# Altium schematic symbol library LTM4627EY#PBF.SchLib: 1 symbol
Pins are listed as number, name and electrical type; pins without a type are passive.

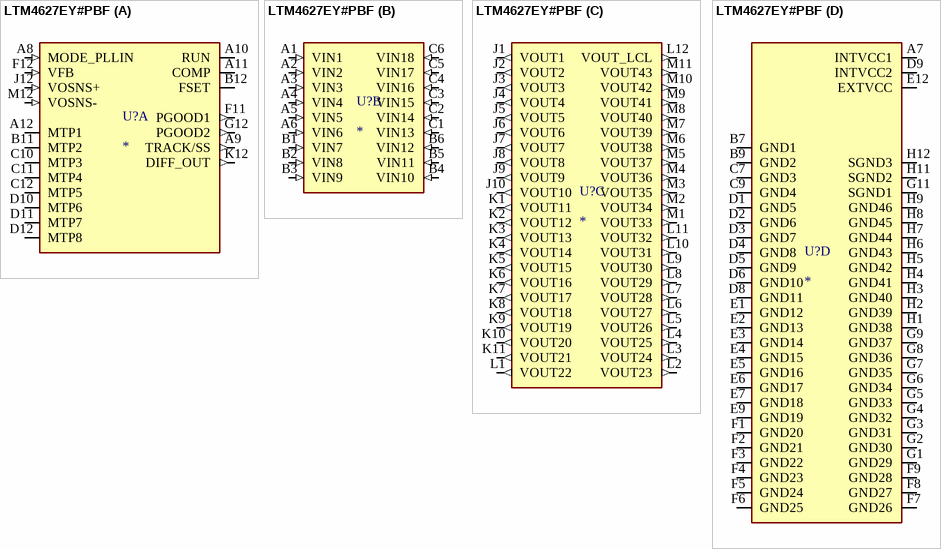
[diagram p0: symbol LTM4627EY#PBF]

## LTM4627EY#PBF
designator U?
Module DC-DC 1-OUT 0.6V to 5V 15A Automotive 133-Pin BGA Tray; MF: Analog Devices; MP: LTM4627EY#PBF; SnapEDA_Link: https://www.snapeda.com/parts/LTM4627EY%23PBF/Analog+Devices/view-part/?ref=snap; Availability: In Stock; Purchase-URL: https://pricing.snapeda.com/search/part/LTM4627EY#PBF/?ref=eda; Check_prices: https://www.snapeda.com/parts/LTM4627EY%23PBF/Analog+Devices/view-part/?ref=eda; Value: *; Package: BGA -133 Analog Devices; Price: None
footprint BGA133C127P12X12_1500X1500X512N
part A pins: A8 MODE_PLLIN (in), A9 TRACK/SS (out), A10 RUN (io), A11 COMP (io), A12 MTP1, B11 MTP2, B12 FSET (io), C10 MTP3, C11 MTP4, C12 MTP5, D10 MTP6, D11 MTP7, D12 MTP8, F11 PGOOD1 (out), F12 VFB (in), G12 PGOOD2 (out), J12 VOSNS+ (in), K12 DIFF_OUT (out), M12 VOSNS- (in)
part B pins: A1 VIN1 (in), A2 VIN2 (in), A3 VIN3 (in), A4 VIN4 (in), A5 VIN5 (in), A6 VIN6 (in), B1 VIN7 (in), B2 VIN8 (in), B3 VIN9 (in), B4 VIN10 (in), B5 VIN11 (in), B6 VIN12 (in), C1 VIN13 (in), C2 VIN14 (in), C3 VIN15 (in), C4 VIN16 (in), C5 VIN17 (in), C6 VIN18 (in)
part C pins: J1 VOUT1 (out), J2 VOUT2 (out), J3 VOUT3 (out), J4 VOUT4 (out), J5 VOUT5 (out), J6 VOUT6 (out), J7 VOUT7 (out), J8 VOUT8 (out), J9 VOUT9 (out), J10 VOUT10 (out), K1 VOUT11 (out), K2 VOUT12 (out), K3 VOUT13 (out), K4 VOUT14 (out), K5 VOUT15 (out), K6 VOUT16 (out), K7 VOUT17 (out), K8 VOUT18 (out), K9 VOUT19 (out), K10 VOUT20 (out), K11 VOUT21 (out), L1 VOUT22 (out), L2 VOUT23 (out), L3 VOUT24 (out), L4 VOUT25 (out), L5 VOUT26 (out), L6 VOUT27 (out), L7 VOUT28 (out), L8 VOUT29 (out), L9 VOUT30 (out), L10 VOUT31 (out), L11 VOUT32 (out), L12 VOUT_LCL (out), M1 VOUT33 (out), M2 VOUT34 (out), M3 VOUT35 (out), M4 VOUT36 (out), M5 VOUT37 (out), M6 VOUT38 (out), M7 VOUT39 (out), M8 VOUT40 (out), M9 VOUT41 (out), M10 VOUT42 (out), M11 VOUT43 (out)
part D pins: A7 INTVCC1 (power), B7 GND1 (power), B9 GND2 (power), C7 GND3 (power), C9 GND4 (power), D1 GND5 (power), D2 GND6 (power), D3 GND7 (power), D4 GND8 (power), D5 GND9 (power), D6 GND10 (power), D8 GND11 (power), D9 INTVCC2 (power), E1 GND12 (power), E2 GND13 (power), E3 GND14 (power), E4 GND15 (power), E5 GND16 (power), E6 GND17 (power), E7 GND18 (power), E9 GND19 (power), E12 EXTVCC (power), F1 GND20 (power), F2 GND21 (power), F3 GND22 (power), F4 GND23 (power), F5 GND24 (power), F6 GND25 (power), F7 GND26 (power), F8 GND27 (power), F9 GND28 (power), G1 GND29 (power), G2 GND30 (power), G3 GND31 (power), G4 GND32 (power), G5 GND33 (power), G6 GND34 (power), G7 GND35 (power), G8 GND36 (power), G9 GND37 (power), G11 SGND1 (power), H1 GND38 (power), H2 GND39 (power), H3 GND40 (power), H4 GND41 (power), H5 GND42 (power), H6 GND43 (power), H7 GND44 (power), H8 GND45 (power), H9 GND46 (power), H11 SGND2 (power), H12 SGND3 (power)